# Altium footprint library C1825(4564)x2.54.PcbLib: 1 footprints
Each footprint in its own frame and in the unit in brackets; x right, y up, seen from the top. Pads: shape width x height; smd on the part's side, far side on the other; paste and mask are expansions set on the pad; w line width, h text height; cw(c..) or ccw(c..) is an arc to the next point about the centre after c.
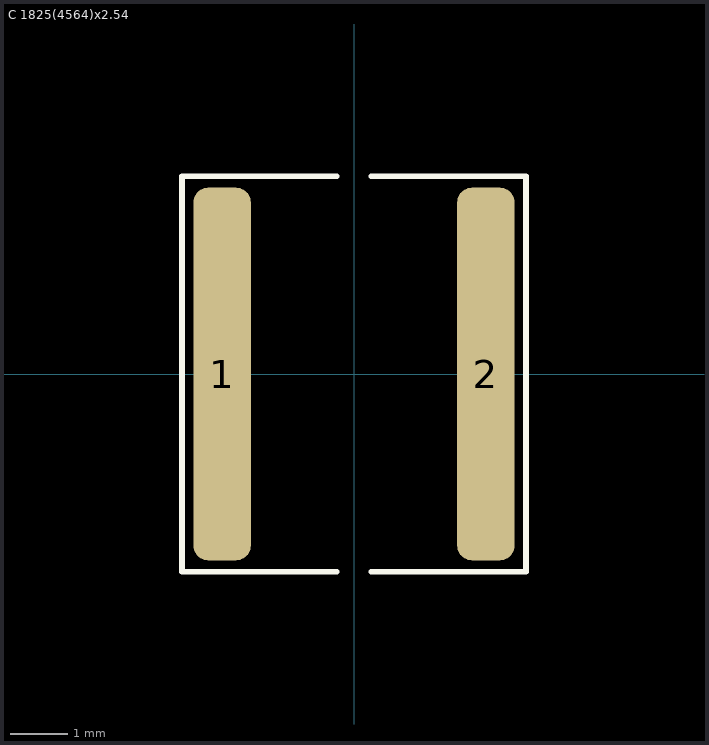
[diagram p0: the footprint, top view; thin cyan lines are the x and y axes]

## C 1825(4564)x2.54 [mm]
height 2.54
pads (2):
  rrect50% 1x6.5 smd: 1(-2.3,0) 2(2.3,0)
Top Overlay:
  lines w0.1: -0.3,-3.45 -3,-3.45 -3,3.45 -0.3,3.45 ; 0.3,-3.45 3,-3.45 3,3.45 0.3,3.45
3D body "Cap 1825(4564)x254N.STEP": height 2.55, standoff 0, extent -2.25,-3.2 2.25,3.2